# EAGLE library part 74099-07 (library con-molex-c-grid)
C-Grid SL
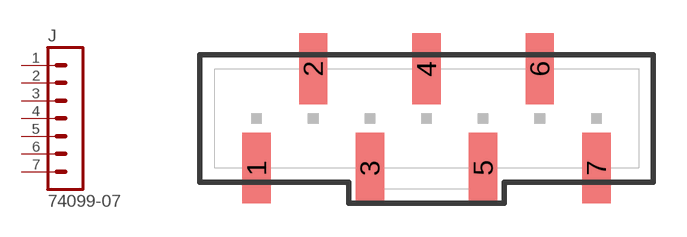
[diagram p41: symbol with the pads of 74099-07; footprint 74099-07]

Designator prefix J

## 74099-07  [74099-07]
1  1  pas
2  2  pas
3  3  pas
4  4  pas
5  5  pas
6  6  pas
7  7  pas

## Footprint 74099-07 (pad centres in mm)
C-Grid SL vertical, SMD
smd 1.27 x 3.175: 1 -7.62,-2.223; 2 -5.08,2.223; 3 -2.54,-2.223; 4 0,2.223; 5 2.54,-2.223; 6 5.08,2.223; 7 7.62,-2.223